# Altium footprint library CN_MVSTBW 2,5_ 2-ST-5_08.PcbLib: 1 footprints
Each footprint in its own frame and in the unit in brackets; x right, y up, seen from the top. Pads: shape width x height; smd on the part's side, far side on the other; paste and mask are expansions set on the pad; w line width, h text height; cw(c..) or ccw(c..) is an arc to the next point about the centre after c.
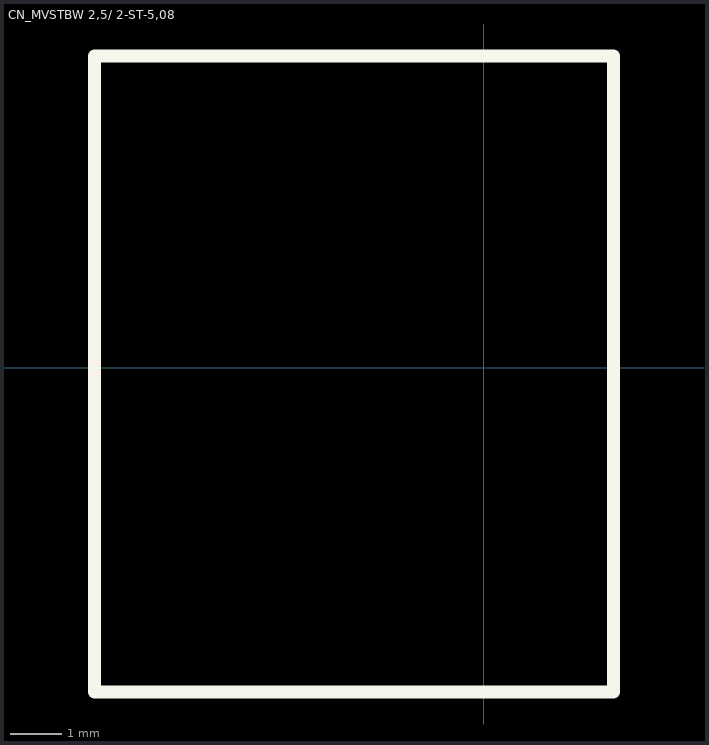
[diagram p0: the footprint, top view; thin cyan lines are the x and y axes]

## CN_MVSTBW 2,5/ 2-ST-5,08 [mm] "Plug component, Nominal current: 12 A, Rated voltage (III/2): 320 V, Number of positions: 2, Pitch: 5.08 mm, Connection method: Screw connection, Color: green, Contact surface: Tin"
Top Overlay:
  lines w0.254: -7.62,-6.35 2.54,-6.35 2.54,6.096 -7.62,6.096 -7.62,-6.35
3D body: height 30.2, standoff 4.2, extent -7.62,-6.415 2.54,6.185